# Altium integrated library HJafarzadehLib.IntLib: 22 symbols
Pins are listed as number, name and electrical type; pins without a type are passive.

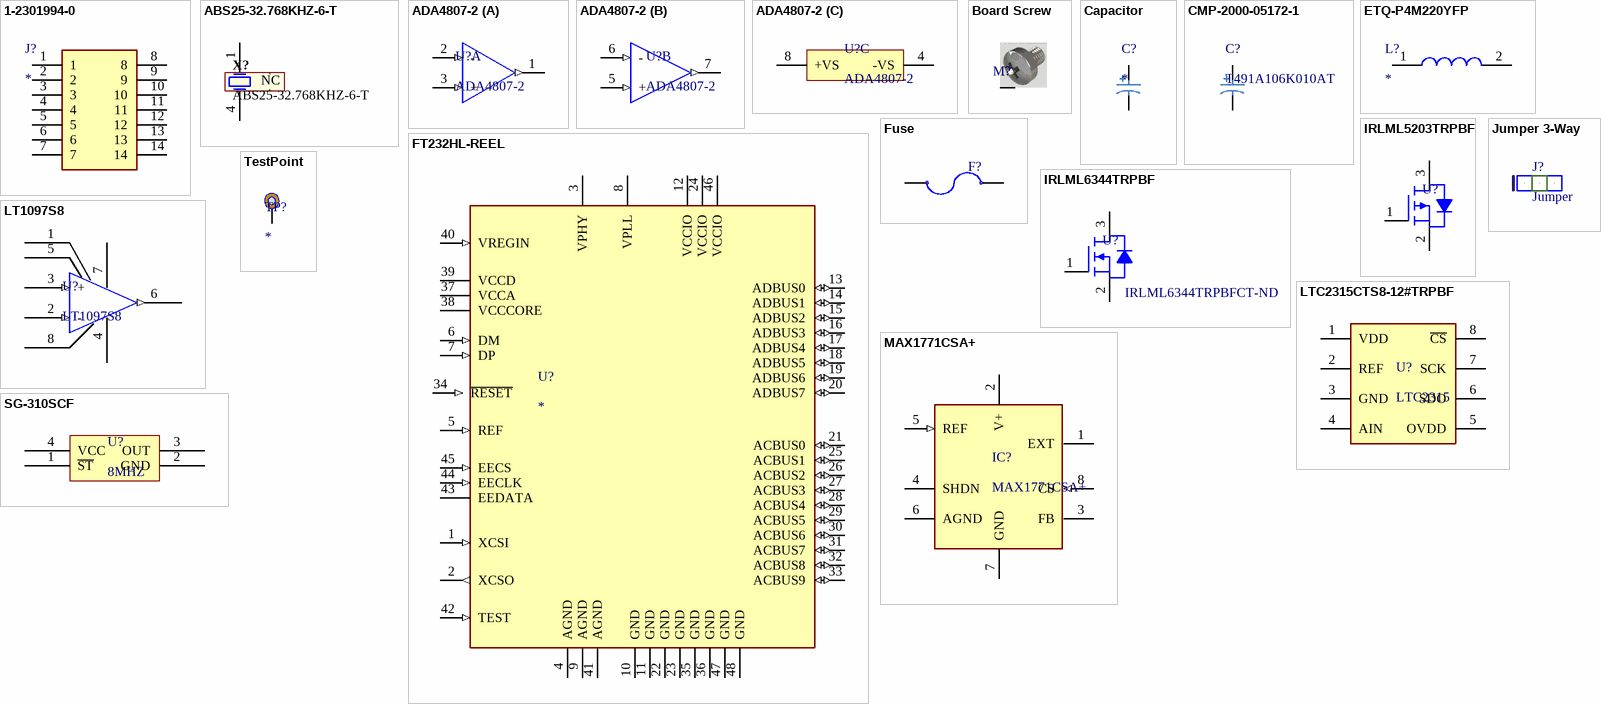
[diagram p0: symbols 1-2301994-0 to TestPoint]

## 1-2301994-0
designator J?
Connector; Manufacturer_Name: TE Connectivity; Manufacturer_Part_Number: 1-2301994-0; Allied_Number: 71072086; Datasheet Link: http://www.te.com/commerce/DocumentDelivery/DDEController?Action=srchrtrv&DocNm=1-2301994-0&DocType=Customer+Drawing&DocLang=English; Mouser Part Number: 571-1-2301994-0; Mouser Price/Stock: https://www.mouser.com/Search/Refine.aspx?Keyword=571-1-2301994-0; RS Part Number: 1443329P; RS Price/Stock: http://uk.rs-online.com/web/p/products/1443329P; Allied Price/Stock: https://www.alliedelec.com/te-connectivity-1-2301994-0/71072086/
footprint 1-2301994-0
pins: 1, 2, 3, 4, 5, 6, 7, 8, 9, 10, 11, 12, 13, 14

## ABS25-32.768KHZ-6-T
designator X?
Low Frequency Crystal, 32.768 KHz, 6 pF, +/- 20 ppm, -40 to 85 degC, 4-Pin SMD, RoHS, Tape and Reel; Manufacturer: Abracon; Tolerance: 20PPM; ESR: 50kOhms; Case Width: 3.8mm; Case Height: 2.5mm; Case Length: 8mm; Load Capacitance: 6pF; Operating Temperature Range: -40Cto+85C; Package Reference: ABS25; Factory Pack Quantity: 3000; Package Description: 4-Pin Surface Mount Device, Body 8 x 3.8 mm, Pitch 5.5 mm; Frequency: 32.768kHz; Termination Style: SMD/SMT; Manufacturer URL: http://www.abracon.com/; Type: LowFrequencyCrystal; Dimensions: 3.8mmWx8mmLx2.5mmH; Product Category: Crystals; Series: ABS25; RoHS: Details; Package / Case: 8mmx3.8mm; Datasheet Version: Jun-17; Brand: ABRACON; Datasheet URL: https://datasheet.ciiva.com/854/abs25-854528.pdf; Packaging: Reel; Mounting Style: SMD/SMT
footprint ABRA-ABS25-4_V (SMD, 4-Leads, Body 8x3.8mm, Pitch 5.5mm, Height 2.5mm)
pins: 1 X1, 2 NC, 3 NC, 4 X2

## ADA4807-2
designator U?
Operational Amplifier, 180 Mhz, 2, 225 V/ S, 2.7V To 11V, Msop, 8; Manufacturer: Analog Devices; Manufacturer Part Number: ADA4807-2ARMZ; Power Supply Rejection Ratio (PSRR): 98dB; Min Supply Voltage: 3V; Voltage Gain: 130dB; Max Supply Voltage: 10V; Common Mode Rejection Ratio: 110dB; Number of Circuits: 2; Slew Rate: 145V/µs; -3db Bandwidth: 170MHz; Input Bias Current: 1.2uA; Input Offset Voltage (Vos): 20uV; Operating Supply Current: 950uA; Output Current per Channel: 106mA; Gain Bandwidth Product: 180MHz; Max Dual Supply Voltage: 5V; Min Dual Supply Voltage: 1.5V; Max Frequency: 100kHz; Output Current: 60mA; Supplier 1: Digi-Key; RoHS: Yes; Category: Amplifiers - Op Amps, Buffer, Instrumentation; Stock 1: 2544; Mount: Surface Mount; Case/Package: MSOP; Number of Pins: 8; Contact Plating: Tin,Matte; Min Operating Temperature: -40°C; Max Operating Temperature: 125°C; Packaging: Tray; Bandwidth: 180MHz; Number of Amplifiers: 2; Max Input Voltage: 11V; Min Input Voltage: 2.7V; Length: 3.2mm; Height: 0.95mm; Width: 3.2mm; Lead Free: Contains Lead; REACH SVHC: No SVHC; ComponentLink1URL: http://www.mouser.com/ds/2/609/ADA4807-1_4807-2_4807-4-773557.pdf?src-supplier=Mouser; ComponentLink1Description: http://www.mouser.com/ds/2/609/ADA4807-1_4807-2_4807-4-773557.pdf?src-supplier=Mouser; ComponentLink2URL: http://uk.rs-online.com/webdocs/143c/0900766b8143cfda.pdf?src-supplier=RSComponents; ComponentLink2Description: http://uk.rs-online.com/webdocs/143c/0900766b8143cfda.pdf?src-supplier=RSComponents; ComponentLink3URL: http://www.farnell.com/datasheets/1971065.pdf?src-supplier=Farnell; ComponentLink3Description: http://www.farnell.com/datasheets/1971065.pdf?src-supplier=Farnell; ComponentLink4URL: http://www.analog.com/media/en/technical-documentation/data-sheets/ADA4807-1_4807-2.pdf?src-supplier=Avnet; ComponentLink4Description: http://www.analog.com/media/en/technical-documentation/data-sheets/ADA4807-1_4807-2.pdf?src-supplier=Avnet; ComponentLink5URL: http://www.farnell.com/datasheets/1971065.pdf?src-supplier=Newark; ComponentLink5Description: http://www.farnell.com/datasheets/1971065.pdf?src-supplier=Newark; ComponentLink6URL: https://www.analog.com/media/en/technical-documentation/data-sheets/ADA4807-1_4807-2_4807-4.pdf?src-supplier=Digi-Key; ComponentLink6Description: https://www.analog.com/media/en/technical-documentation/data-sheets/ADA4807-1_4807-2_4807-4.pdf?src-supplier=Digi-Key; ComponentLink7URL: http://www.farnell.com/datasheets/1971065.pdf?src-supplier=Element14; ComponentLink7Description: http://www.farnell.com/datasheets/1971065.pdf?src-supplier=Element14; Supplier Part Number 1: ADA4807-2ARMZ-ND
footprint SOP65P490X110-8N
part A pins: 1 OUT1 (out), 2 - (in), 3 + (in)
part B pins: 5 + (in), 6 - (in), 7 OUT2 (out)
part C pins: 4 -VS, 8 +VS

## Board Screw
designator M?, comment Screw  (value not drawn)
Board Screw With Spacer
footprint Board Screw
footprint Board Screw-No Arrow
footprint Board Screw-No Silk
pins: S

## Capacitor
designator C?
Capacitor
footprint CAP POL 1206_3216 (Molded Capacitor, 2-Leads, Body 3.20x1.6mm, IPC Medium Density)
footprint CAP POL 2917_7343 (Molded Capacitor, 2-Leads, Body 7.30x4.30mm, IPC Medium Density)
footprint CAP POL 1411_3528 (Molded Capacitor, 2-Leads, Body 3.50x2.80mm, IPC Medium Density)
pins: 1, 2

## CMP-2000-05172-1
designator C?, comment T491A106K010AT
Capacitor, Tantalum, 10 uF, +/- 10%, 10 V, -55 to 125 degC, 2-Pin SMD (1206), RoHS, Tape and Reel; Manufacturer Size Code: A; Manufacturer: Kemet; Type: Molded; Online Catalog: T491Series; Other Names: 399-3684-2; Voltage - Rated: 10V; Lifetime @ Temp.: 2000Hrs@85degC; Product Training Modules: CapacitorBasics-TypicalUsesforCapacitorsDeratingGuidelinesforSurfaceMountTantalumCapacitors; ESR (Equivalent Series Resistance): 3.8Ohm; Capacitance: 10µF; Catalog Drawings: T49x,T5xxSeries_A-side1T49x,T5xxSeries_A,B-side2T49x,T5xxSeries_A,SBottom; Family: TantalumCapacitors; Manufacturer URL: http://www.kemet.com/; Datasheet URL: http://www.farnell.com/datasheets/1824869.pdf; Package Reference: 1206; Packaging: Tape&Reel(TR); Series: T491; Operating Temperature: -55degC~125degC; Mounting Type: SurfaceMount; Height - Seated (Max): 0.071"(1.80mm); Package / Case: 1206(3216Metric); Package Description: 2-Pin Surface Mount Device, Body 3.2 x 1.6 mm; Features: GeneralPurpose; Tolerance: ±10%; Lead Spacing: -; Size / Dimension: 0.126"Lx0.063"W(3.20mmx1.60mm); Standard Package: 2,000; Datasheet Version: Apr-14; Category: Capacitors
pins: 1, 2

## ETQ-P4M220YFP
designator L?
Fixed Inductors PCC 22uH AEC-Q200; Manufacturer_Name: Panasonic; Manufacturer_Part_Number: ETQ-P4M220YFP; Manufacturer Part Number: ETQP4M220YFP; Core Material: Metal,Composite; Saturation Current: 3.1A; DC Resistance (DCR): 179mR; Tolerance: 20%; Current Rating: 2.3A; Shielding: Shielded; Test Frequency: 100kHz; Datasheet Link: https://componentsearchengine.com/Datasheets/1/ETQ-P4M220YFP.pdf; Height: 4mm; Supplier 1: Farnell; Manufacturer: Panasonic; RoHS: Yes; Category: Fixed Inductors; Stock 1: 5436; Pricing 1: 5=1.59000, 50=0.96700, 250=0.85400, 500=0.74100, 1000=0.57200, 2000=0.56400, 10000=0.55500 (EUR); Mount: Surface Mount; Case/Package: Nonstandard; Contact Plating: Tin; Min Operating Temperature: -40°C; Max Operating Temperature: 150°C; Packaging: Tape and Reel; Inductance: 22uH; Termination: SMD/SMT; Package Quantity: 1000; Composition: Wirewound; Max DC Current: 2.3A; Self Resonant Frequency: 100kHz; Length: 5.5mm; Width: 0.197inch; Height - Seated (Max): 0.157inch; Depth: 5mm; Ratings: AEC-Q200; Lead Free: Lead Free; ComponentLink1URL: https://media.digikey.com/pdf/Data%20Sheets/Panasonic%20Inductors%20Coils%20Filters%20PDFs/Various_ETQ_Series_NPI.pdf?src-supplier=Digi-Key; ComponentLink1Description: https://media.digikey.com/pdf/Data%20Sheets/Panasonic%20Inductors%20Coils%20Filters%20PDFs/Various_ETQ_Series_NPI.pdf?src-supplier=Digi-Key; ComponentLink2URL: http://www.mouser.com/ds/2/315/AGL0000C3-947435.pdf?src-supplier=Mouser; ComponentLink2Description: http://www.mouser.com/ds/2/315/AGL0000C3-947435.pdf?src-supplier=Mouser; ComponentLink3URL: http://industrial.panasonic.com/cdbs/www-data/pdf/AGL0000/AGL0000C59.pdf?src-supplier=Newark; ComponentLink3Description: http://industrial.panasonic.com/cdbs/www-data/pdf/AGL0000/AGL0000C59.pdf?src-supplier=Newark; ComponentLink4URL: https://industrial.panasonic.com/cdbs/www-data/pdf/AGL0000/AGL0000C59.pdf?src-supplier=Digi-Key; ComponentLink4Description: https://industrial.panasonic.com/cdbs/www-data/pdf/AGL0000/AGL0000C59.pdf?src-supplier=Digi-Key; ComponentLink5URL: http://industrial.panasonic.com/www-data/pdf/AGL0000/AGL0000CE9.pdf?src-supplier=Avnet+Asia; ComponentLink5Description: http://industrial.panasonic.com/www-data/pdf/AGL0000/AGL0000CE9.pdf?src-supplier=Avnet+Asia; Supplier Part Number 1: 2797991
footprint INDPM5752X400N-D
pins: 1, 2

## FT232HL-REEL
designator U?
Integrated Circuit; Manufacturer_Name: FTDI Chip; Manufacturer_Part_Number: FT232HL-REEL; Allied_Number: 70069390; Datasheet Link: http://www.ftdichip.com/Support/Documents/DataSheets/ICs/DS_FT232H.pdf; Height: 1.6mm; Mouser Part Number: 895-FT232HL-REEL; Mouser Price/Stock: https://www.mouser.com/Search/Refine.aspx?Keyword=895-FT232HL-REEL; RS Part Number: 7377843P; RS Price/Stock: http://uk.rs-online.com/web/p/products/7377843P; Allied Price/Stock: http://www.alliedelec.com/ftdi-ft232hl-reel/70069390/
footprint QFP50P900X900X160-48N
pins: 1 XCSI (in), 2 XCSO (out), 3 VPHY, 4 AGND (power), 5 REF (in), 6 DM (in), 7 DP (in), 8 VPLL, 9 AGND (power), 10 GND (power), 11 GND (power), 12 VCCIO (power), 13 ADBUS0 (io), 14 ADBUS1 (io), 15 ADBUS2 (io), 16 ADBUS3 (io), 17 ADBUS4 (io), 18 ADBUS5 (io), 19 ADBUS6 (io), 20 ADBUS7 (io), 21 ACBUS0 (io), 22 GND (power), 23 GND (power), 24 VCCIO (power), 25 ACBUS1 (io), 26 ACBUS2 (io), 27 ACBUS3 (io), 28 ACBUS4 (io), 29 ACBUS5 (io), 30 ACBUS6 (io), 31 ACBUS7 (io), 32 ACBUS8 (io), 33 ACBUS9 (io), 34 ~{RESET} (in), 35 GND (power), 36 GND (power), 37 VCCA (power), 38 VCCCORE (power), 39 VCCD (power), 40 VREGIN (in), 41 AGND (power), 42 TEST (in), 43 EEDATA, 44 EECLK (in), 45 EECS (in), 46 VCCIO (power), 47 GND (power), 48 GND (power)

## Fuse
designator F?  (value not drawn)
Designer :: Hamed Jafarzadeh
footprint Fuse 5x20MM
footprint Fuse ATOF Blade Fuse MidFuse (ATOF Blade Fuse Rated 58v - Little Fuse Company)
footprint Fuse Maxi Blade Fuse MaxFuse (Maxi Blade Fuse Rated 32v - Little Fuse Company)
footprint Fuse Mini Blade Fuse MinFuse (Mini Blade Fuse Rated 58v - Little Fuse Company)
pins: 1, 2

## IRLML5203TRPBF
designator U?  (value not drawn)
Power MOSFET, P Channel, 30 V, 3 A, 0.098 ohm, SOT-23, Surface Mount; Manufacturer: International Rectifier; Manufacturer Part Number: IRLML5203TRPBF; Continuous Drain Current (ID): 3A; Drain to Source Voltage (Vdss): 30V; Gate to Source Voltage (Vgs): 20V; Max Power Dissipation: 1.25W; Turn-On Delay Time: 12ns; Turn-Off Delay Time: 88ns; Rise Time: 18ns; Fall Time: 52ns; Rds On Max: 98mR; Input Capacitance: 510pF; Element Configuration: Single; Drain to Source Breakdown Voltage: -30V; Drain to Source Resistance: 165mR; Number of Elements: 1; Threshold Voltage: -2.5V; Supplier 1: Farnell; RoHS: Yes; Category: MOSFETs; Stock 1: 178586; Pricing 1: 5=0.36000, 25=0.34300, 100=0.17400, 250=0.17300, 500=0.14200, 1000=0.11100, 5000=0.10400 (EUR); Mount: Surface Mount; Case/Package: SOT-23; Number of Pins: 3; Min Operating Temperature: -55°C; Max Operating Temperature: 150°C; Packaging: Tape and Reel; Power Dissipation: 1.25W; Package Quantity: 3000; Nominal Vgs: -2.5V; On-State Resistance: 98MR; Termination: SMD/SMT; Dual Supply Voltage: -30V; Length: 3.04mm; Height: 1.02mm; Width: 1.4mm; Radiation Hardening: No; REACH SVHC: No SVHC; Lead Free: Lead Free; ComponentLink1URL: https://datasheet.ciiva.com/19470/1563690-19470810.pdf?src-supplier=Jameco; ComponentLink1Description: https://datasheet.ciiva.com/19470/1563690-19470810.pdf?src-supplier=Jameco; ComponentLink2URL: https://datasheet.ciiva.com/30479/0900766b81222b4c-30479787.pdf?src-supplier=RSComponents; ComponentLink2Description: https://datasheet.ciiva.com/30479/0900766b81222b4c-30479787.pdf?src-supplier=RSComponents; ComponentLink3URL: https://datasheet.ciiva.com/936/irlml5203pbf-936992.pdf?src-supplier=Digi-Key; ComponentLink3Description: https://datasheet.ciiva.com/936/irlml5203pbf-936992.pdf?src-supplier=Digi-Key; ComponentLink4URL: https://datasheet.ciiva.com/936/irlml5203pbf-936993.pdf?src-supplier=Digi-Key; ComponentLink4Description: https://datasheet.ciiva.com/936/irlml5203pbf-936993.pdf?src-supplier=Digi-Key; ComponentLink5URL: https://datasheet.ciiva.com/936/irlml5203pbf-936994.pdf?src-supplier=Digi-Key; ComponentLink5Description: https://datasheet.ciiva.com/936/irlml5203pbf-936994.pdf?src-supplier=Digi-Key; ComponentLink6URL: https://datasheet.ciiva.com/16392/irlml5203pbf-16392665.pdf?src-supplier=Future+Electronics; ComponentLink6Description: https://datasheet.ciiva.com/16392/irlml5203pbf-16392665.pdf?src-supplier=Future+Electronics; ComponentLink7URL: https://datasheet.ciiva.com/5950/irlml5203pbf-5950588.pdf?src-supplier=Farnell; ComponentLink7Description: https://datasheet.ciiva.com/5950/irlml5203pbf-5950588.pdf?src-supplier=Farnell; ComponentLink8URL: https://datasheet.ciiva.com/7870/irlml5203pbf-7870455.pdf?src-supplier=Element14; ComponentLink8Description: https://datasheet.ciiva.com/7870/irlml5203pbf-7870455.pdf?src-supplier=Element14; ComponentLink9URL: https://datasheet.ciiva.com/7798/irlml5203pbf-7798877.pdf?src-supplier=Element14; ComponentLink9Description: https://datasheet.ciiva.com/7798/irlml5203pbf-7798877.pdf?src-supplier=Element14; ComponentLink10URL: https://datasheet.ciiva.com/5950/irlml5203pbf-5950590.pdf?src-supplier=Farnell; ComponentLink10Description: https://datasheet.ciiva.com/5950/irlml5203pbf-5950590.pdf?src-supplier=Farnell; Supplier Part Number 1: 9103511
footprint INTR-SOT23-3_V (SOT23, 3-Leads, Body 3.04x1.4mm, Pitch 0.95mm)
pins: 1 G, 2 S, 3 D

## IRLML6344TRPBF
designator U?  Supplier Part Number 1: IRLML6344TRPBFCT-ND  (hidden comment: *)
Trans MOSFET N-CH 30V 5A 3-Pin SOT-23 T/R; Manufacturer: International Rectifier; Manufacturer Part Number: IRLML6344TRPBF; Gate to Source Voltage (Vgs): 12V; Power Dissipation: 1.3W; Rds On Max: 29mR; Turn-On Delay Time: 4.2ns; Turn-Off Delay Time: 22ns; Fall Time: 9.1ns; Rise Time: 5.6ns; Input Capacitance: 650pF; Number of Elements: 1; Element Configuration: Single; Threshold Voltage: 800mV; On-State Resistance: 37MR; Recovery Time: 15ns; Supplier 1: Digi-Key; RoHS: Yes; Category: MOSFETs; Stock 1: 167366; Pricing 1: 1=0.43000, 10=0.35100, 25=0.32120, 100=0.20160, 250=0.19940, 500=0.18670, 1000=0.12696 (USD); Mount: Surface Mount; Case/Package: SOT-23; Number of Pins: 3; Min Operating Temperature: -55°C; Max Operating Temperature: 150°C; Drain to Source Voltage (Vdss): 30V; Continuous Drain Current (ID): 5A; Packaging: Tape and Reel; Max Power Dissipation: 1.3W; Drain to Source Breakdown Voltage: 30V; Drain to Source Resistance: 29mR; Package Quantity: 1; Nominal Vgs: 800mV; Length: 3.04mm; Height: 1.02mm; Width: 1.4mm; Radiation Hardening: No; Lead Free: Lead Free; REACH SVHC: No SVHC; ComponentLink1URL: https://datasheet.ciiva.com/22703/irlml6344pbf-22703168.pdf?src-supplier=Element14; ComponentLink1Description: https://datasheet.ciiva.com/22703/irlml6344pbf-22703168.pdf?src-supplier=Element14; ComponentLink2URL: https://datasheet.ciiva.com/16295/irlml6344pbf-16295574.pdf?src-supplier=Future+Electronics; ComponentLink2Description: https://datasheet.ciiva.com/16295/irlml6344pbf-16295574.pdf?src-supplier=Future+Electronics; ComponentLink3URL: https://datasheet.ciiva.com/936/irlml6344pbf-936905.pdf?src-supplier=Digi-Key; ComponentLink3Description: https://datasheet.ciiva.com/936/irlml6344pbf-936905.pdf?src-supplier=Digi-Key; ComponentLink4URL: https://datasheet.ciiva.com/7870/irlml6344pbf-7870456.pdf?src-supplier=Element14; ComponentLink4Description: https://datasheet.ciiva.com/7870/irlml6344pbf-7870456.pdf?src-supplier=Element14; ComponentLink5URL: https://datasheet.ciiva.com/936/irlml6344pbf-936906.pdf?src-supplier=Digi-Key; ComponentLink5Description: https://datasheet.ciiva.com/936/irlml6344pbf-936906.pdf?src-supplier=Digi-Key; ComponentLink6URL: https://datasheet.ciiva.com/7870/1911844-7870538.pdf?src-supplier=Element14; ComponentLink6Description: https://datasheet.ciiva.com/7870/1911844-7870538.pdf?src-supplier=Element14; ComponentLink7URL: https://datasheet.ciiva.com/936/irlml6344pbf-936907.pdf?src-supplier=Digi-Key; ComponentLink7Description: https://datasheet.ciiva.com/936/irlml6344pbf-936907.pdf?src-supplier=Digi-Key; ComponentLink8URL: https://datasheet.ciiva.com/29325/161191-da-01-en-mosfet-irlml6344trpbf-sot23-ir-29325558.pdf?src-supplier=Conrad; ComponentLink8Description: https://datasheet.ciiva.com/29325/161191-da-01-en-mosfet-irlml6344trpbf-sot23-ir-29325558.pdf?src-supplier=Conrad
footprint INTR-SOT23-3_V (SOT23, 3-Leads, Body 3.04x1.4mm, Pitch 0.95mm)
pins: 1 G, 2 S, 3 D

## Jumper 3-Way
designator J?, comment Jumper
footprint Jumper-3Way-2.54
footprint JumperSMD 3Pin - UltraSmall
pins: 1 0, 2 1, 3 2

## LT1097S8
designator U?
IC OPAMP GP 700KHZ 8SO; Manufacturer: Analog Devices / Linear Technology; Manufacturer Part Number: LT1097S8#PBF; Common Mode Rejection Ratio: 115dB; Number of Circuits: 1; Input Bias Current: 350pA; Input Offset Voltage (Vos): 10uV; Operating Supply Current: 350uA; Voltage Gain: 127.96dB; Slew Rate: 0.2V/µs; Power Supply Rejection Ratio (PSRR): 114dB; Max Dual Supply Voltage: 20V; Min Dual Supply Voltage: 1.2V; Supplier 1: Digi-Key; RoHS: Yes; Category: Amplifiers - Op Amps, Buffer, Instrumentation; Stock 1: 3742; Pricing 1: 1=4.75000, 25=2.58840, 100=2.44350 (USD); Mount: Surface Mount; Case/Package: SOIC; Number of Pins: 8; Min Operating Temperature: -40°C; Max Operating Temperature: 85°C; Number of Elements: 1; Package Quantity: 100; Packaging: Rail/Tube; Unity Gain Bandwidth Product: 700kHz; Number of Channels: 1; Gain Bandwidth Product: 700kHz; Bandwidth: 700kHz; Number of Amplifiers: 1; Nominal Supply Current: 350uA; Radiation Hardening: No; Lead Free: Lead Free; REACH SVHC: No SVHC; ComponentLink1URL: https://datasheet.ciiva.com/1794/1104-1794561.pdf?src-supplier=Digi-Key; ComponentLink1Description: https://datasheet.ciiva.com/1794/1104-1794561.pdf?src-supplier=Digi-Key; ComponentLink2URL: https://datasheet.ciiva.com/14151/jm640688-e-14151610.pdf?src-supplier=Distrelec; ComponentLink2Description: https://datasheet.ciiva.com/14151/jm640688-e-14151610.pdf?src-supplier=Distrelec; ComponentLink3URL: https://datasheet.ciiva.com/26344/679762-da-01-en-ic-lt1097s8-pbf-so-8-ltc-26344272.pdf?src-supplier=Conrad; ComponentLink3Description: https://datasheet.ciiva.com/26344/679762-da-01-en-ic-lt1097s8-pbf-so-8-ltc-26344272.pdf?src-supplier=Conrad; ComponentLink4URL: https://datasheet.ciiva.com/26854/lt1097s8-pbf-26854944.pdf?src-supplier=IIIC; ComponentLink4Description: https://datasheet.ciiva.com/26854/lt1097s8-pbf-26854944.pdf?src-supplier=IIIC; ComponentLink5URL: https://datasheet.ciiva.com/5704/1712346-5704302.pdf?src-supplier=Farnell; ComponentLink5Description: https://datasheet.ciiva.com/5704/1712346-5704302.pdf?src-supplier=Farnell
footprint SOIC127P599X175-8N
pins: 1, 2 - (in), 3 + (in), 4, 5, 6 OUTB (out), 7, 8

## LTC2315CTS8-12#TRPBF
designator U?, comment LTC2315
Integrated Circuit; Manufacturer_Name: Analog Devices; Manufacturer_Part_Number: LTC2315CTS8-12#TRPBF; Datasheet Link: https://www.analog.com/media/en/technical-documentation/data-sheets/231512fa.pdf; Height: 1mm; Mouser Part Number: 584-C2315CTS8-12TPF; Mouser Price/Stock: https://www.mouser.com/Search/Refine.aspx?Keyword=584-C2315CTS8-12TPF
footprint SOT65P280X100-8N
pins: 1 VDD, 2 REF, 3 GND, 4 AIN, 5 OVDD, 6 SDO, 7 SCK, 8 ~{CS}

## MAX1771CSA+
designator IC?
MAXIM INTEGRATED PRODUCTS - MAX1771CSA+ - CONTROLLER, STEP UP DC DC, 12V,1771; Output Voltage: 12.48V; Output Current: 2A; Number of Outputs: 1; Switching Frequency: 300kHz; Max Frequency: 500kHz; Duty Cycle: 92%; Topology: Boost; Max Input Voltage: 16.5V; Min Input Voltage: 2V; Max Output Current: 800mA; Output Type: Fixed,Adjustable; Datasheet Link: http://datasheets.maximintegrated.com/en/ds/MAX1771.pdf; Height: 1.75mm; Manufacturer_Name: Maxim Integrated; Manufacturer_Part_Number: MAX1771CSA+; Mouser Part Number: 700-MAX1771CSA; Mouser Price/Stock: https://www.mouser.com/Search/Refine.aspx?Keyword=700-MAX1771CSA; RS Part Number: 7328790P; RS Price/Stock: http://uk.rs-online.com/web/p/products/7328790P; Supplier 1: Farnell; Manufacturer: Maxim; Manufacturer Part Number: MAX1771CSA+; RoHS: Yes; Category: Voltage Regulators - Switching; Stock 1: 432; Pricing 1: 1=4.44000, 10=4.03000, 25=3.73000, 50=3.67000, 100=3.23000, 250=3.03000, 500=2.76000, 1000=2.27000 (EUR); Mount: Surface Mount; Case/Package: SOIC; Number of Pins: 8; Weight: 0.006596oz; Min Operating Temperature: 0°C; Max Operating Temperature: 70°C; Package Quantity: 100; Packaging: Rail/Tube; Min Output Voltage: 2V; Max Output Voltage: 12V; Length: 5mm; Width: 4mm; Radiation Hardening: No; Lead Free: Lead Free; REACH SVHC: Unknown; ComponentLink1URL: https://datasheet.ciiva.com/3217/max1771-3217306.pdf?src-supplier=Avnet; ComponentLink1Description: https://datasheet.ciiva.com/3217/max1771-3217306.pdf?src-supplier=Avnet; ComponentLink2URL: https://datasheet.ciiva.com/2016/max1771-2016747.pdf?src-supplier=Digi-Key; ComponentLink2Description: https://datasheet.ciiva.com/2016/max1771-2016747.pdf?src-supplier=Digi-Key; ComponentLink3URL: https://datasheet.ciiva.com/7994/74526-7994730.pdf?src-supplier=Element14; ComponentLink3Description: https://datasheet.ciiva.com/7994/74526-7994730.pdf?src-supplier=Element14; ComponentLink4URL: https://datasheet.ciiva.com/4877/max1771-100479-4877736.pdf?src-supplier=Mouser; ComponentLink4Description: https://datasheet.ciiva.com/4877/max1771-100479-4877736.pdf?src-supplier=Mouser; Supplier Part Number 1: 2518765
footprint SOIC127P600X175-8N
pins: 1 EXT, 2 V+, 3 FB, 4 SHDN, 5 REF (in), 6 AGND (power), 7 GND (power), 8 CS (in)

## SG-310SCF
designator U?, comment 8MHZ
EPSON         Q33310F700156 SG-310SCF 8 MHZ C             OSCILLATOR, SPXO, SG-310SCF, 8 MHZ, SMD; Manufacturer Part Number: Q33310F700156SG310SCF8MHZC; Load Capacitance: 15pF; Max Supply Voltage: 3.6V; Min Supply Voltage: 2.7V; Operating Supply Voltage: 3.3V; Capacitance: 1.5E-11F; Supplier 1: Farnell; Manufacturer: Epson; RoHS: Yes; Stock 1: 1884; Pricing 1: 1=1.53000, 50=0.99800, 100=0.92100, 250=0.83100, 500=0.75800 (EUR); Number of Pins: 4; Min Operating Temperature: -20°C; Max Operating Temperature: 70°C; Packaging: Cut Tape; Frequency: 8MHz; REACH SVHC: Unknown; ComponentLink1URL: https://datasheet.ciiva.com/48778/1668038-48778405.pdf?src-supplier=Element14; ComponentLink1Description: https://datasheet.ciiva.com/48778/1668038-48778405.pdf?src-supplier=Element14; Supplier Part Number 1: 1278055
footprint EPSON TSX-3225 (Crystal, 4-Leads, Body 2.50x3.20mm, Pitch 2.20mm, IPC Medium Density)
pins: 1 ~{ST}, 2 GND, 3 OUT, 4 VCC

## TestPoint
designator TP?
footprint TestPointSMD 1mm
footprint TestPoint 1.5x1.5
pins: 1


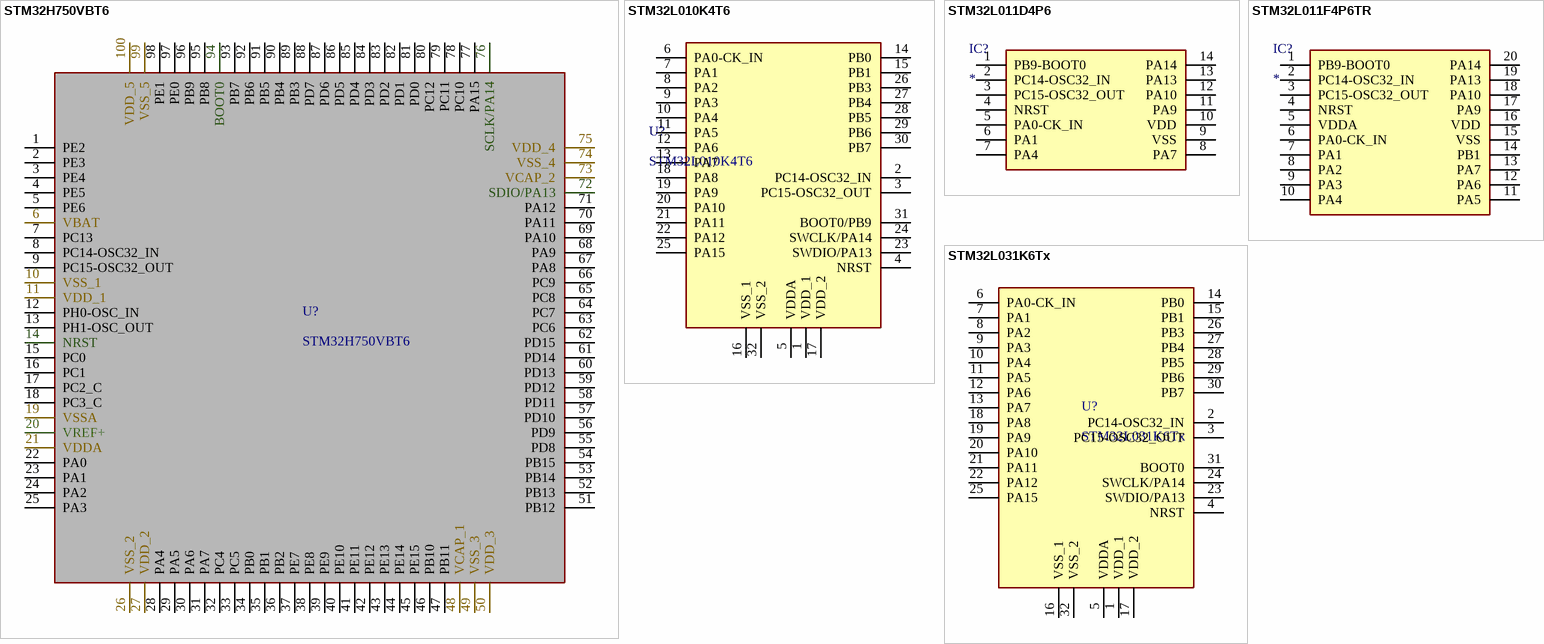
[diagram p1: symbols STM32H750VBT6 to STM32L031K6Tx]

## STM32H750VBT6
designator U?
Integrated Circuit; Manufacturer_Name: STMicroelectronics; Datasheet Link: https://www.st.com/resource/en/datasheet/stm32h750vb.pdf; Height: 1.6mm; Manufacturer_Part_Number: STM32H750VBT6; Mouser Part Number: 511-STM32H750VBT6; Mouser Price/Stock: https://www.mouser.com/Search/Refine.aspx?Keyword=511-STM32H750VBT6; RS Part Number: 1962057; RS Price/Stock: http://uk.rs-online.com/web/p/products/1962057
footprint QFP50P1600X1600X160-100N
pins: 1 PE2, 2 PE3, 3 PE4, 4 PE5, 5 PE6, 6 VBAT, 7 PC13, 8 PC14-OSC32_IN, 9 PC15-OSC32_OUT, 10 VSS_1, 11 VDD_1, 12 PH0-OSC_IN, 13 PH1-OSC_OUT, 14 NRST, 15 PC0, 16 PC1, 17 PC2_C, 18 PC3_C, 19 VSSA, 20 VREF+, 21 VDDA, 22 PA0, 23 PA1, 24 PA2, 25 PA3, 26 VSS_2, 27 VDD_2, 28 PA4, 29 PA5, 30 PA6, 31 PA7, 32 PC4, 33 PC5, 34 PB0, 35 PB1, 36 PB2, 37 PE7, 38 PE8, 39 PE9, 40 PE10, 41 PE11, 42 PE12, 43 PE13, 44 PE14, 45 PE15, 46 PB10, 47 PB11, 48 VCAP_1, 49 VSS_3, 50 VDD_3, 51 PB12, 52 PB13, 53 PB14, 54 PB15, 55 PD8, 56 PD9, 57 PD10, 58 PD11, 59 PD12, 60 PD13, 61 PD14, 62 PD15, 63 PC6, 64 PC7, 65 PC8, 66 PC9, 67 PA8, 68 PA9, 69 PA10, 70 PA11, 71 PA12, 72 SDIO/PA13, 73 VCAP_2, 74 VSS_4, 75 VDD_4, 76 SCLK/PA14, 77 PA15, 78 PC10, 79 PC11, 80 PC12, 81 PD0, 82 PD1, 83 PD2, 84 PD3, 85 PD4, 86 PD5, 87 PD6, 88 PD7, 89 PB3, 90 PB4, 91 PB5, 92 PB6, 93 PB7, 94 BOOT0, 95 PB8, 96 PB9, 97 PE0, 98 PE1, 99 VSS_5, 100 VDD_5

## STM32L010K4T6
designator U?
STM32L Series 16 kB Flash 2 KB RAM 32 MHz 32-Bit Microcontroller - LQFP-32; Manufacturer_Name: STMicroelectronics; Datasheet Link: https://www.st.com/resource/en/datasheet/stm32l010k4.pdf; Height: 1.6mm; Manufacturer_Part_Number: STM32L010K4T6; Mouser Part Number: 511-STM32L010K4T6; Mouser Price/Stock: https://www.mouser.com/Search/Refine.aspx?Keyword=511-STM32L010K4T6; Supplier 1: Digi-Key; Manufacturer: STMicroelectronics; Manufacturer Part Number: STM32L010K4T6; RoHS: No; Stock 1: 297; Pricing 1: 1=1.29000, 10=1.15700, 25=1.09800, 100=0.90210, 250=0.84324, 500=0.74518, 1000=0.58830, 2500=0.54908, 5000=0.52163 (USD); Supplier Part Number 1: 497-STM32L010K4T6-ND
footprint QFP80P900X900X160-32N
pins: 1 VDD_1, 2 PC14-OSC32_IN, 3 PC15-OSC32_OUT, 4 NRST, 5 VDDA, 6 PA0-CK_IN, 7 PA1, 8 PA2, 9 PA3, 10 PA4, 11 PA5, 12 PA6, 13 PA7, 14 PB0, 15 PB1, 16 VSS_1, 17 VDD_2, 18 PA8, 19 PA9, 20 PA10, 21 PA11, 22 PA12, 23 SWDIO/PA13, 24 SWCLK/PA14, 25 PA15, 26 PB3, 27 PB4, 28 PB5, 29 PB6, 30 PB7, 31 BOOT0/PB9, 32 VSS_2

## STM32L011D4P6
designator IC?
Integrated Circuit; Manufacturer_Name: STMicroelectronics; Manufacturer_Part_Number: STM32L011D4P6; Datasheet Link: http://www.mouser.com/ds/2/389/stm32l011d4-956266.pdf; Height: 1.2mm; Mouser Part Number: 511-STM32L011D4P6; Mouser Price/Stock: https://www.mouser.com/Search/Refine.aspx?Keyword=511-STM32L011D4P6; RS Part Number: 1894063P; RS Price/Stock: http://uk.rs-online.com/web/p/products/1894063P
footprint SOP65P640X120-14N
pins: 1 PB9-BOOT0, 2 PC14-OSC32_IN, 3 PC15-OSC32_OUT, 4 NRST, 5 PA0-CK_IN, 6 PA1, 7 PA4, 8 PA7, 9 VSS, 10 VDD, 11 PA9, 12 PA10, 13 PA13, 14 PA14

## STM32L011F4P6TR
designator IC?
Integrated Circuit; Manufacturer_Name: STMicroelectronics; Manufacturer_Part_Number: STM32L011F4P6TR; Datasheet Link: http://www.st.com/content/ccc/resource/technical/document/datasheet/42/c0/ab/e5/71/7a/47/0b/DM00206508.pdf/files/DM00206508.pdf/jcr:content/translations/en.DM00206508.pdf; Height: 1.2mm; Mouser Part Number: 511-STM32L011F4P6TR; Mouser Price/Stock: https://www.mouser.com/Search/Refine.aspx?Keyword=511-STM32L011F4P6TR; RS Part Number: 1893868; RS Price/Stock: http://uk.rs-online.com/web/p/products/1893868
footprint SOP65P640X120-20N
pins: 1 PB9-BOOT0, 2 PC14-OSC32_IN, 3 PC15-OSC32_OUT, 4 NRST, 5 VDDA, 6 PA0-CK_IN, 7 PA1, 8 PA2, 9 PA3, 10 PA4, 11 PA5, 12 PA6, 13 PA7, 14 PB1, 15 VSS, 16 VDD, 17 PA9, 18 PA10, 19 PA13, 20 PA14

## STM32L031K6Tx
designator U?
Integrated Circuit; Manufacturer_Name: STMicroelectronics; Manufacturer_Part_Number: STM32L031K6T7; Datasheet Link: http://www.st.com/content/ccc/resource/technical/document/datasheet/aa/5d/77/ad/1a/59/4a/b9/DM00140359.pdf/files/DM00140359.pdf/jcr:content/translations/en.DM00140359.pdf; Height: 1.6mm; Mouser Part Number: 511-STM32L031K6T7; Mouser Price/Stock: https://www.mouser.com/Search/Refine.aspx?Keyword=511-STM32L031K6T7; RS Part Number: 1116473P; RS Price/Stock: http://uk.rs-online.com/web/p/products/1116473P
footprint QFP80P900X900X160-32N
pins: 1 VDD_1, 2 PC14-OSC32_IN, 3 PC15-OSC32_OUT, 4 NRST, 5 VDDA, 6 PA0-CK_IN, 7 PA1, 8 PA2, 9 PA3, 10 PA4, 11 PA5, 12 PA6, 13 PA7, 14 PB0, 15 PB1, 16 VSS_1, 17 VDD_2, 18 PA8, 19 PA9, 20 PA10, 21 PA11, 22 PA12, 23 SWDIO/PA13, 24 SWCLK/PA14, 25 PA15, 26 PB3, 27 PB4, 28 PB5, 29 PB6, 30 PB7, 31 BOOT0, 32 VSS_2